# EAGLE library part DP83848I (library work)
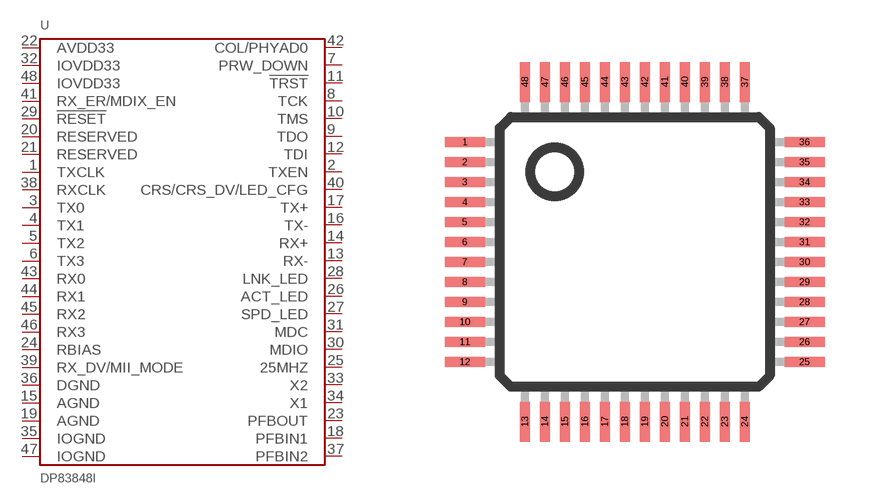
[diagram p46: symbol with the pads of LQFP-48; footprint LQFP-48]

Designator prefix U

## DP83848I  [LQFP-48]
1  TXCLK
2  TXEN
3  TX0
4  TX1
5  TX2
6  TX3
7  PRW_DOWN
8  TCK
9  TDO
10  TMS
11  !TRST
12  TDI
13  RX-
14  RX+
15  AGND
16  TX-
17  TX+
18  PFBIN1
19  AGND
20  RESERVED
21  RESERVED
22  AVDD33
23  PFBOUT
24  RBIAS
25  25MHZ
26  ACT_LED
27  SPD_LED
28  LNK_LED
29  !RESET
30  MDIO
31  MDC
32  IOVDD33
33  X2
34  X1
35  IOGND
36  DGND
37  PFBIN2
38  RXCLK
39  RX_DV/MII_MODE
40  CRS/CRS_DV/LED_CFG
41  RX_ER/MDIX_EN
42  COL/PHYAD0
43  RX0
44  RX1
45  RX2
46  RX3
47  IOGND
48  IOVDD33

## Footprint LQFP-48 (pad centres in mm)
smd 1 x 0.25: 1 -4.25,2.75; 2 -4.25,2.25; 3 -4.25,1.75; 4 -4.25,1.25; 5 -4.25,0.75; 6 -4.25,0.25; 7 -4.25,-0.25; 8 -4.25,-0.75; 9 -4.25,-1.25; 10 -4.25,-1.75; 11 -4.25,-2.25; 12 -4.25,-2.75; 25 4.25,-2.75; 26 4.25,-2.25; 27 4.25,-1.75; 28 4.25,-1.25; 29 4.25,-0.75; 30 4.25,-0.25; 31 4.25,0.25; 32 4.25,0.75; 33 4.25,1.25; 34 4.25,1.75; 35 4.25,2.25; 36 4.25,2.75
smd 0.25 x 1: 13 -2.75,-4.25; 14 -2.25,-4.25; 15 -1.75,-4.25; 16 -1.25,-4.25; 17 -0.75,-4.25; 18 -0.25,-4.25; 19 0.25,-4.25; 20 0.75,-4.25; 21 1.25,-4.25; 22 1.75,-4.25; 23 2.25,-4.25; 24 2.75,-4.25; 37 2.75,4.25; 38 2.25,4.25; 39 1.75,4.25; 40 1.25,4.25; 41 0.75,4.25; 42 0.25,4.25; 43 -0.25,4.25; 44 -0.75,4.25; 45 -1.25,4.25; 46 -1.75,4.25; 47 -2.25,4.25; 48 -2.75,4.25